# Altium schematic symbol library EL-sense_LED Displays & Accessories.SchLib: 1 symbol
Pins are listed as number, name and electrical type; pins without a type are passive.

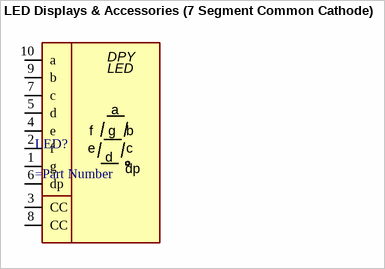
[diagram p0: symbol LED Displays & Accessories (7 Segment Common Cathode)]

## LED Displays & Accessories (7 Segment Common Cathode)
designator LED?
pins: 1 g, 2 f, 3 CC, 4 e, 5 d, 6 dp, 7 c, 8 CC, 9 b, 10 a
text: DPY; LED